# EAGLE library part 95001-6 (library JLB6_Connec)
Molex Jack 6 voies 95001
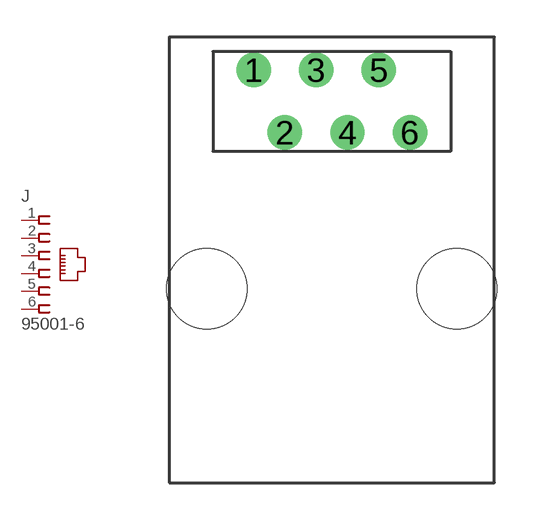
[diagram p29: symbol with the pads of 95001-6; footprint 95001-6]

Designator prefix J

## 95001-6  [95001-6]
1  1  pas
2  2  pas
3  3  pas
4  4  pas
5  5  pas
6  6  pas

## Footprint 95001-6 (pad centres in mm)
drill 0.889: 1 -3.175,8.89; 2 -1.905,6.35; 3 -0.635,8.89; 4 0.635,6.35; 5 1.905,8.89; 6 3.175,6.35
hole 3.251 at -5.08,0
hole 3.251 at 5.08,0